# Altium schematic symbol library wireless_ic.SchLib: 2 symbols
Pins are listed as number, name and electrical type; pins without a type are passive.

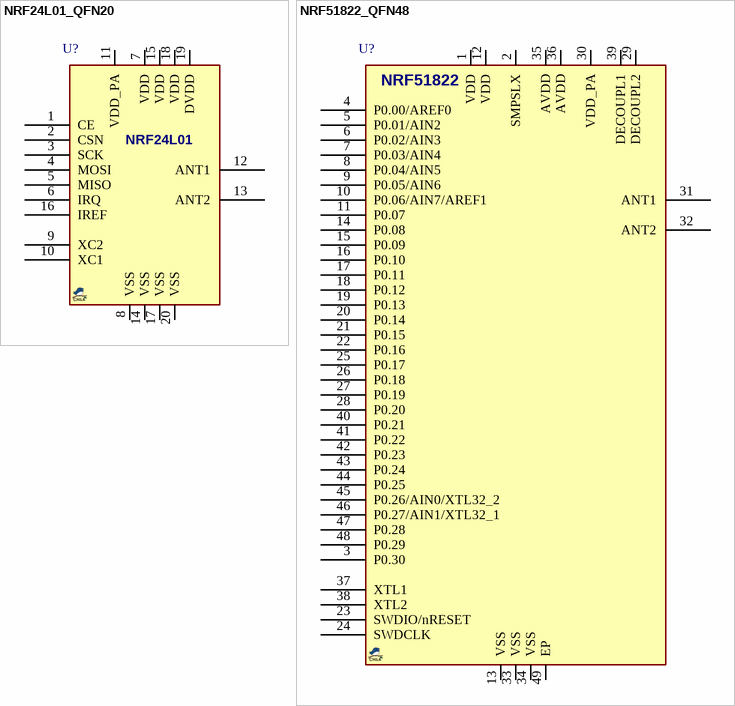
[diagram p0: symbols NRF24L01_QFN20 to NRF51822_QFN48]

## NRF24L01_QFN20
designator U?, comment NRF24L01  (value not drawn)
2.4GHz Transceiver; MANF: NORDIC; PARAM2: 1.9~3.6VCC; MANF_P#: NRF24L01; VALUE: NRF24L01; PACKAGE: QFN-20
footprint QFN50_20T (QFN, 20, 4X4mm, 0.5mm)
pins: 1 CE, 2 CSN, 3 SCK, 4 MOSI, 5 MISO, 6 IRQ, 7 VDD, 8 VSS, 9 XC2, 10 XC1, 11 VDD_PA, 12 ANT1, 13 ANT2, 14 VSS, 15 VDD, 16 IREF, 17 VSS, 18 VDD, 19 DVDD, 20 VSS

## NRF51822_QFN48
designator U?, comment NRF51822  (value not drawn)
SOC, Multiprotocol wireless 2.4GHz, 32-bit ARM , Cortex M0; MANF: NORDIC; MANF_P#: NRF51822-QF; PARAM2: 1.8~3.6VCC; VALUE: NRF51822; PACKAGE: QFN-48
footprint QFN40_48T (QFN, 48-Leads, Body 6.00x6.00mm, Pitch 0.40mm, Thermal Pad 4.40x4.40mm)
pins: 1 VDD, 2 SMPSLX, 3 P0.30, 4 P0.00/AREF0, 5 P0.01/AIN2, 6 P0.02/AIN3, 7 P0.03/AIN4, 8 P0.04/AIN5, 9 P0.05/AIN6, 10 P0.06/AIN7/AREF1, 11 P0.07, 12 VDD, 13 VSS, 14 P0.08, 15 P0.09, 16 P0.10, 17 P0.11, 18 P0.12, 19 P0.13, 20 P0.14, 21 P0.15, 22 P0.16, 23 SWDIO/nRESET, 24 SWDCLK, 25 P0.17, 26 P0.18, 27 P0.19, 28 P0.20, 29 DECOUPL2, 30 VDD_PA, 31 ANT1, 32 ANT2, 33 VSS, 34 VSS, 35 AVDD, 36 AVDD, 37 XTL1, 38 XTL2, 39 DECOUPL1, 40 P0.21, 41 P0.22, 42 P0.23, 43 P0.24, 44 P0.25, 45 P0.26/AIN0/XTL32_2, 46 P0.27/AIN1/XTL32_1, 47 P0.28, 48 P0.29, 49 EP